# EAGLE library part 1-Q-EC-DEC_367661 (library roboCup)
1-Q-EC-DEC_367661 Maxon Motor Controller https://www.maxonmotorusa.com/maxon/view/catalog?etcc_med=ID+Teaser&etcc_cmp=ID-Teaser-Homepage-Drivesystem&etcc_cu=onsite&etcc_var=%5bus%5d%23en%23_d_&etcc_plc=home
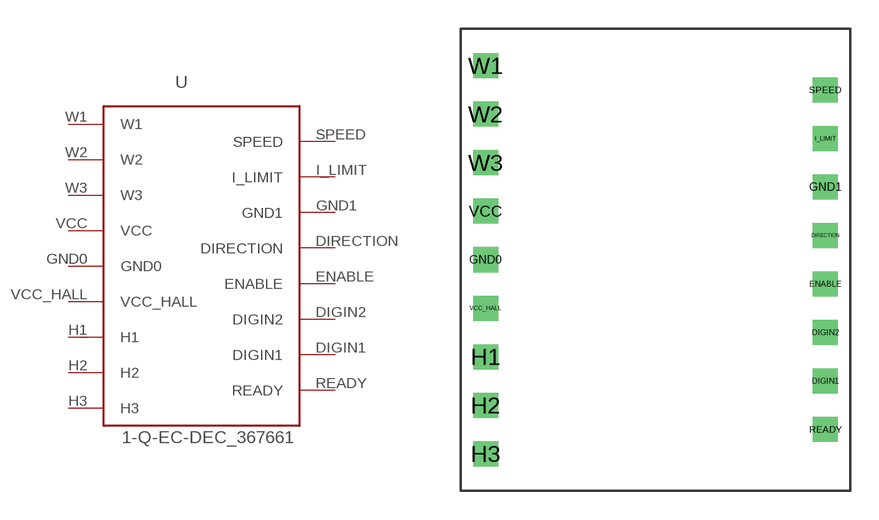
[diagram p0: symbol with the pads of 1-Q-EC-DEC_367661; footprint 1-Q-EC-DEC_367661]

Designator prefix U

## 1-Q-EC-DEC_367661  [1-Q-EC-DEC_367661]
DIGIN1  DIGIN1
DIGIN2  DIGIN2
DIRECTION  DIRECTION
ENABLE  ENABLE
GND0  GND0
GND1  GND1
H1  H1
H2  H2
H3  H3
I_LIMIT  I_LIMIT
READY  READY
SPEED  SPEED
VCC  VCC
VCC_HALL  VCC_HALL
W1  W1
W2  W2
W3  W3

## Footprint 1-Q-EC-DEC_367661 (pad centres in mm)
drill 0.8 pad 1.016 square: DIGIN1 8.89,-6.35; DIGIN2 8.89,-3.81; DIRECTION 8.89,1.27; ENABLE 8.89,-1.27; GND0 -8.89,0; GND1 8.89,3.81; H1 -8.89,-5.08; H2 -8.89,-7.62; H3 -8.89,-10.16; I_LIMIT 8.89,6.35; READY 8.89,-8.89; SPEED 8.89,8.89; VCC -8.89,2.54; VCC_HALL -8.89,-2.54; W1 -8.89,10.16; W2 -8.89,7.62; W3 -8.89,5.08